# Altium footprint library Components.PcbLib: 10 footprints
Each footprint in its own frame and in the unit in brackets; x right, y up, seen from the top. Pads: shape width x height; smd on the part's side, far side on the other; paste and mask are expansions set on the pad; w line width, h text height; cw(c..) or ccw(c..) is an arc to the next point about the centre after c.
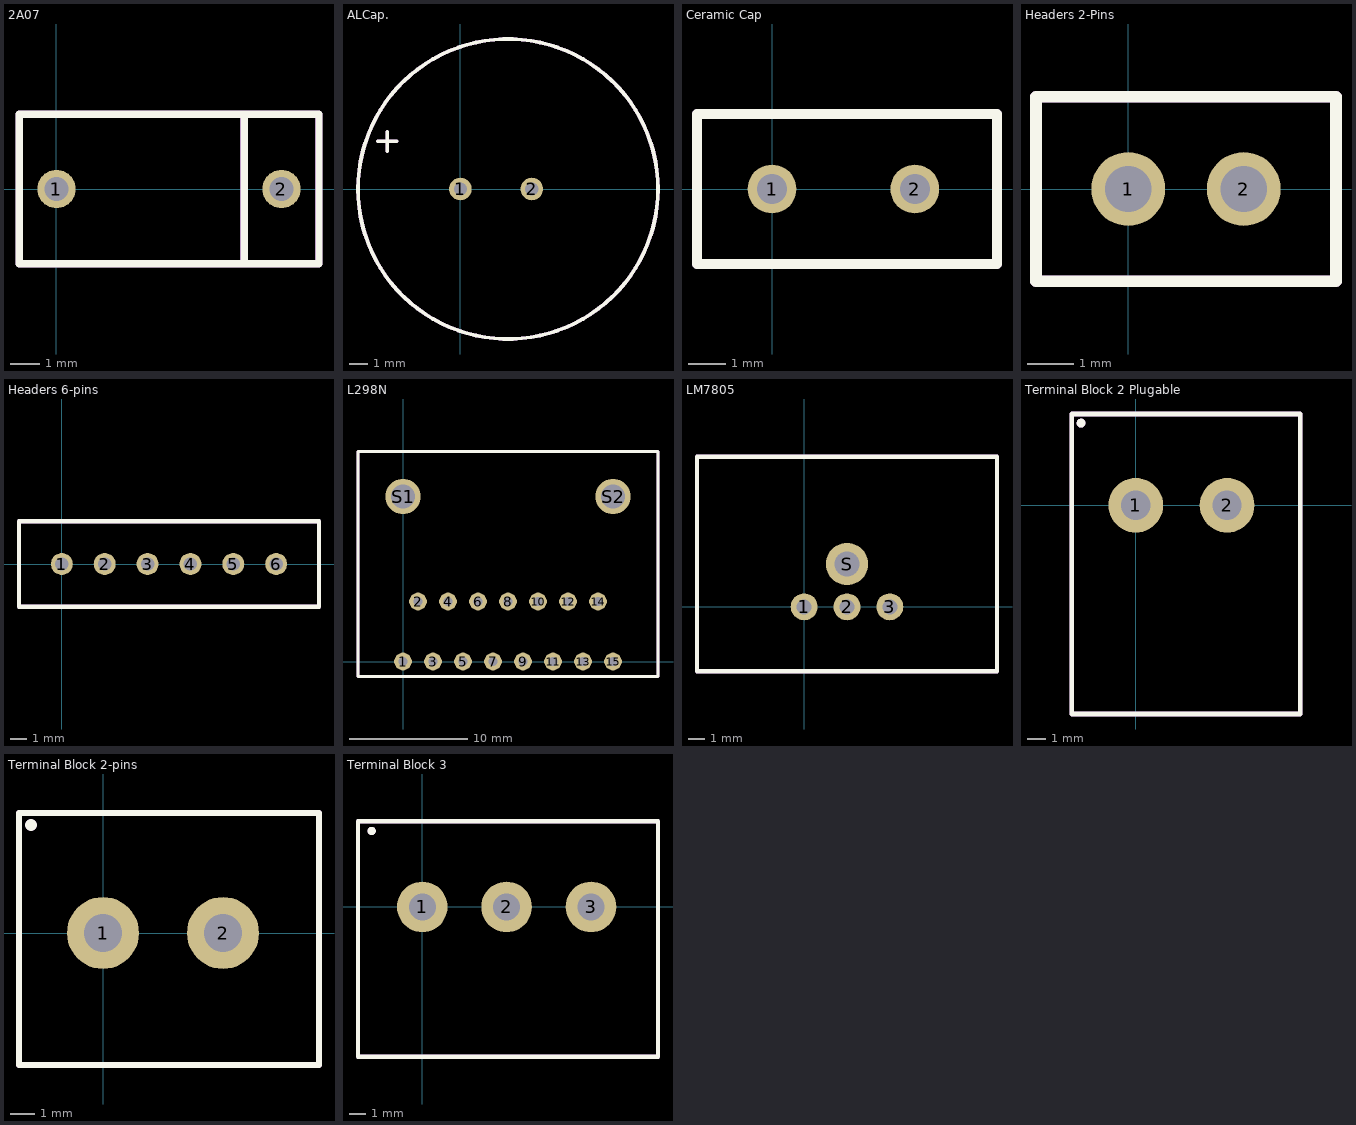
[diagram p0: the footprints below, top view; thin cyan lines are the x and y axes]

## 2A07 [mm]
pads (2):
  round 1.3 hole 0.8: 1(0,0) 2(7.62,0)
Top Overlay:
  lines w0.254: 6.35,-2.54 6.35,2.54 ; -1.27,-2.54 -1.27,2.54 8.89,2.54 8.89,-2.54 -1.27,-2.54
Assembly Notes:
  lines w0.254: 6.35,-2.54 6.35,2.54 ; -1.27,-2.54 -1.27,2.54 8.89,2.54 8.89,-2.54 -1.27,-2.54
  text ".Designator" at 0.4,-1.474 h2
3D body "diode 1N4001.step": height 2.47, standoff -2.3, extent -0.258,-1.271 7.878,1.261

## ALCap. [mm]
pads (2):
  round 1.2 hole 0.7: 1(0,0) 2(3.81,0)
Top Overlay:
  circle w0.2: c2.54,0 r8
  lines w0.2: -4.408,2.54 -3.392,2.54 ; -3.9,2.032 -3.9,3.048
Assembly Notes:
  circle w0.2: c2.54,0 r8
  lines w0.2: -4.408,2.54 -3.392,2.54 ; -3.9,2.032 -3.9,3.048
  text ".Designator" at -3.31,-2.31 h3
3D body "CapElect_470uF_50V.STEP": height 20, standoff -3.5, extent -3.02,-5.052 6.98,4.948

## Ceramic Cap [mm]
pads (2):
  round 1.3 hole 0.8: 1(0,0) 2(3.81,0)
Top Overlay:
  lines w0.254: -2,-2 -2,2 6,2 6,-2 -2,-2
Assembly Notes:
  lines w0.254: -2,-2 -2,2 6,2 6,-2 -2,-2
  text ".Designator" at -0.85,-0.65 h0.6
3D body "Ceramic Cap, 5mm lead spacing, 4mm width, and 5.5mm tall, v4 v2.step": height 4, standoff -3.3, extent -0.825,-1.208 4.825,1.248

## Headers 2-Pins [mm]
pads (2):
  round 1.6 hole 1: 1(0,0) 2(2.5,0)
Top Overlay:
  lines w0.254: -2,-2 -2,2 4.5,2 4.5,-2 -2,-2
Assembly Notes:
  lines w0.254: -2,-2 -2,2 4.5,2 4.5,-2 -2,-2
  text ".Designator" at -1.4,-1.234 h2
3D body "61300211121_Download_STP_61300211121_rev1.stp": height 9.27, standoff -2.27, extent -1.252,-1.252 3.828,1.288

## Headers 6-pins [mm]
pads (6):
  round 1.3 hole 0.8: 1(0,0) 2(2.54,0) 3(5.08,0) 4(7.62,0) 5(10.16,0) 6(12.7,0)
Top Overlay:
  lines w0.254: -2.54,-2.54 -2.54,2.54 15.24,2.54 15.24,-2.54 -2.54,-2.54
Assembly Notes:
  lines w0.254: -2.54,-2.54 -2.54,2.54 15.24,2.54 15.24,-2.54 -2.54,-2.54
  text ".Designator" at -1.041,-0.816 h1.34
3D body "61300211121_Download_STP_61300211121_rev1.stp": height 8.47, standoff -3.07, extent -1.27,-1.27 3.81,1.27
3D body "61300211121_Download_STP_61300211121_rev1.stp": height 8.47, standoff -3.07, extent 3.81,-1.27 8.89,1.27
3D body "61300211121_Download_STP_61300211121_rev1.stp": height 8.47, standoff -3.07, extent 8.89,-1.27 13.97,1.27

## L298N [mm]
pads (17):
  round 1.5 hole 0.8: 1(0,0) 2(1.27,5.08) 3(2.54,0) 4(3.81,5.08) 5(5.08,0) 6(6.35,5.08) 7(7.62,0) 8(8.89,5.08) 9(10.16,0) 10(11.43,5.08) 11(12.7,0) 12(13.97,5.08) 13(15.24,0) 14(16.51,5.08) 15(17.78,0)
  round 3 hole 2: S1(0,13.97) S2(17.78,13.97)
Top Overlay:
  lines w0.254: -3.81,-1.27 21.59,-1.27 21.59,17.78 -3.81,17.78 -3.81,-1.27
Assembly Notes:
  lines w0.254: -3.81,-1.27 21.59,-1.27 21.59,17.78 -3.81,17.78 -3.81,-1.27
  text ".Designator" at -1.24,3.633 h7
3D body "L298N_Heatsink_axisY.step": height 25.7, standoff -3.3, extent -2.629,-0.279 20.371,16.741

## LM7805 [mm]
pads (4):
  round 1.6 hole 0.9: 1(0,0) 2(2.54,0) 3(5.08,0)
  round 2.5 hole 1.5: S(2.54,2.54)
Top Overlay:
  lines w0.254: -6.35,-3.81 11.43,-3.81 11.43,8.89 -6.35,8.89 -6.35,-3.81
Assembly Notes:
  lines w0.254: -6.35,-3.81 11.43,-3.81 11.43,8.89 -6.35,8.89 -6.35,-3.81
  text ".Designator" at -4.08,0.126 h5
3D body "78xx.STEP": height 22.95, standoff -8.8, extent -4.805,-3.033 9.895,7.467

## Terminal Block 2 Plugable [mm]
pads (2):
  round 3 hole 1.6: 1(0,0) 2(5,0)
Top Overlay:
  circle w0.254: c-3,4.5 r0.116
  lines w0.254: -3.5,-11.43 9,-11.43 9,5 -3.5,5 -3.5,-11.43
Assembly Notes:
  circle w0.254: c-3,4.5 r0.116
  lines w0.254: -3.5,-11.43 9,-11.43 9,5 -3.5,5 -3.5,-11.43
  text ".Designator" at -1.84,-8.127 h4
3D body "terminal pluggable.SLDPRT": height 9.2, standoff -3.4, extent -2.46,-10.16 7.54,1.84

## Terminal Block 2-pins [mm] "Throwhole"
pads (2):
  round 3 hole 1.6: 1(0,0) 2(5,0)
Top Overlay:
  circle w0.254: c-3,4.5 r0.116
  lines w0.254: -3.5,-5.5 9,-5.5 9,5 -3.5,5 -3.5,-5.5
Assembly Notes:
  circle w0.254: c-3,4.5 r0.116
  lines w0.254: -3.5,-5.5 9,-5.5 9,5 -3.5,5 -3.5,-5.5
  text ".Designator" at -2.3,-2.967 h4
3D body "1935161--3DModel-STEP-56544.STEP": height 11.7, standoff -3.2, extent -2.438,-4.956 7.962,4.044

## Terminal Block 3 [mm]
pads (3):
  round 3 hole 1.6: 1(0,0) 2(5,0) 3(10,0)
Top Overlay:
  circle w0.254: c-3,4.5 r0.116
  lines w0.254: -3.81,-8.89 13.97,-8.89 13.97,5.08 12.7,5.08 -3.81,5.08 -3.81,-8.89
Assembly Notes:
  circle w0.254: c-3,4.5 r0.116
  lines w0.254: -3.81,-8.89 13.97,-8.89 13.97,5.08 12.7,5.08 -3.81,5.08 -3.81,-8.89
  text ".Designator" at -2.3,-2.967 h4
3D body "kf2edgv-x-5.08-3p male connector .STEP": height 8.67, standoff -3.83, extent -2.54,-8.29 12.7,3.81